# Altium footprint library IHDM1008BCEV100M30.PcbLib: 1 footprints
Each footprint in its own frame and in the unit in brackets; x right, y up, seen from the top. Pads: shape width x height; smd on the part's side, far side on the other; paste and mask are expansions set on the pad; w line width, h text height; cw(c..) or ccw(c..) is an arc to the next point about the centre after c.
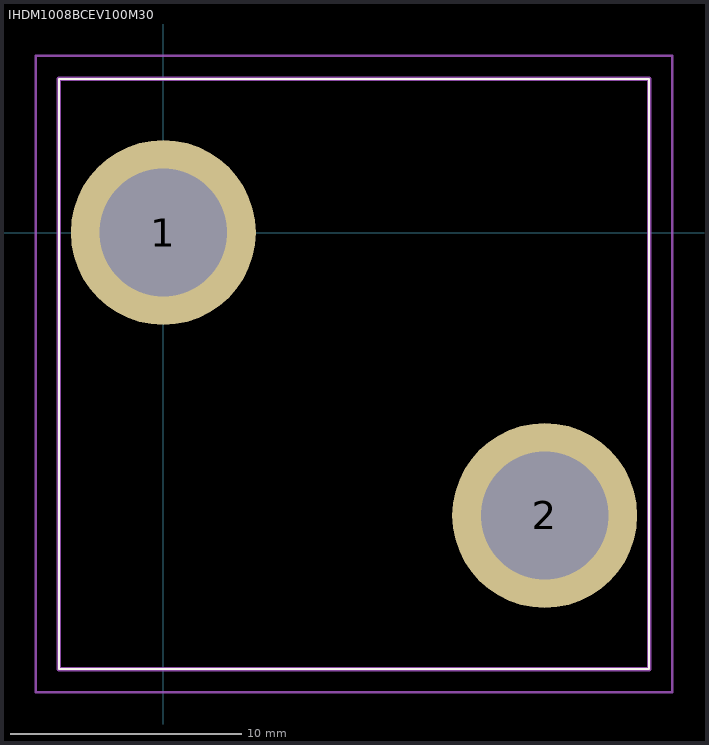
[diagram p0: the footprint, top view; thin cyan lines are the x and y axes]

## IHDM1008BCEV100M30 [mm]
pads (2):
  round 8 hole 5.53: 1(0,0) 2(16.5,-12.24)
Top Overlay:
  lines w0.1: -4.515,-18.885 21.015,-18.885 21.015,6.645 -4.515,6.645 -4.515,-18.885
Mechanical 15:
  lines w0.2: -4.515,-18.885 21.015,-18.885 21.015,6.645 -4.515,6.645 -4.515,-18.885
Mechanical 20:
  lines w0.1: -5.515,-19.885 22.015,-19.885 22.015,7.645 -5.515,7.645 -5.515,-19.885